# Altium footprint library PICOLED.PcbLib: 1 footprints
Each footprint in its own frame and in the unit in brackets; x right, y up, seen from the top. Pads: shape width x height; smd on the part's side, far side on the other; paste and mask are expansions set on the pad; w line width, h text height; cw(c..) or ccw(c..) is an arc to the next point about the centre after c.
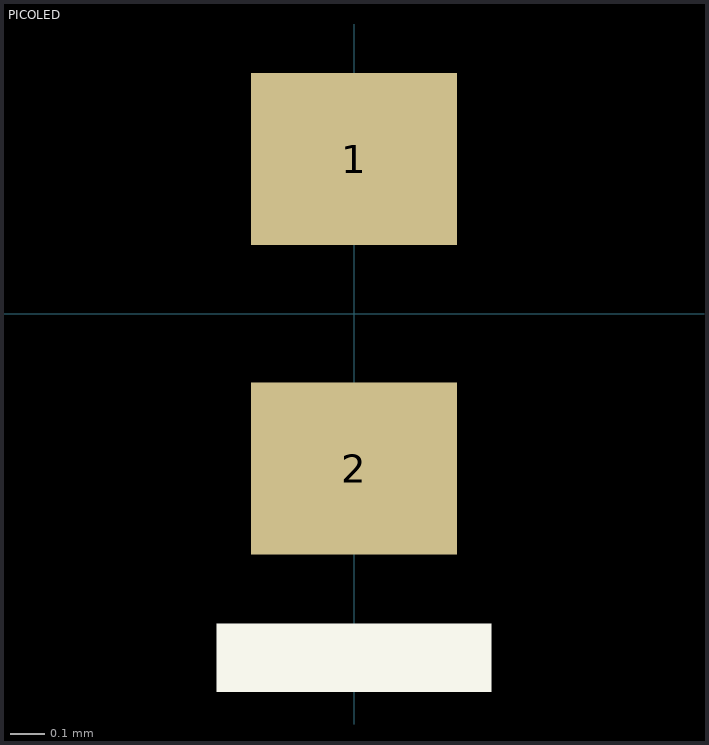
[diagram p0: the footprint, top view; thin cyan lines are the x and y axes]

## PICOLED [mm] "PICOLED  TM  -eco/PICOLED  TM"
height 0.2
pads (2):
  rect 0.6x0.5 smd: 1(0,0.45) 2(0,-0.45)
Top Overlay:
  rectangle: -0.4,-1.1 0.4,-0.9
3D body "User Library-LED_1006_W.STEP": height 0.2, standoff 0, extent -0.3,-0.5 0.3,0.5